# EAGLE library part ADA4932-1YCPZ-R7 (library open_covg)
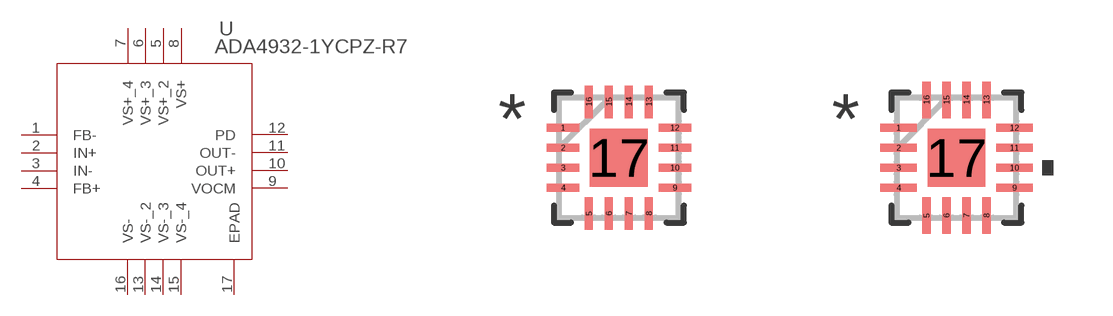
[diagram p3: symbol with the pads of CP_16_2; footprints CP_16_2, CP_16_2-M]

Designator prefix U

## ADA4932-1YCPZ-R7 (MANUFACTURER_PART_NUMBER: ADA49321YCPZR7; VENDOR: Analog Devices Inc)  [CP_16_2]
1  FB-  pas
2  IN+  pas
3  IN-  pas
4  FB+  pas
5  VS+_2  pwr
6  VS+_3  pwr
7  VS+_4  pwr
8  VS+  pwr
9  VOCM  pas
10  OUT+  pas
11  OUT-  pas
12  PD  pas
13  VS-_2  pwr
14  VS-_3  pwr
15  VS-_4  pwr
16  VS-  pwr
17  EPAD  pwr

## ADA4932-1YCPZ-R7CP_16_2-M (MANUFACTURER_PART_NUMBER: ADA49321YCPZR7; VENDOR: Analog Devices Inc)  [CP_16_2-M]
Pads as for CP_16_2

## ADA4932-1YCPZ-R7CP_16_2-L (MANUFACTURER_PART_NUMBER: ADA49321YCPZR7; VENDOR: Analog Devices Inc)  [CP_16_2-L]
Pads as for CP_16_2

## Footprint CP_16_2 (pad centres in mm)
smd 0.813 x 0.203: 1 -1.397,0.75; 2 -1.397,0.25; 3 -1.397,-0.25; 4 -1.397,-0.75; 9 1.397,-0.75; 10 1.397,-0.25; 11 1.397,0.25; 12 1.397,0.75
smd 0.203 x 0.813: 5 -0.75,-1.397; 6 -0.25,-1.397; 7 0.25,-1.397; 8 0.75,-1.397; 13 0.75,1.397; 14 0.25,1.397; 15 -0.25,1.397; 16 -0.75,1.397
smd 1.448 x 1.448: 17 0,0

## Footprint CP_16_2-M (pad centres in mm)
smd 0.914 x 0.203: 1 -1.448,0.75; 2 -1.448,0.25; 3 -1.448,-0.25; 4 -1.448,-0.75; 9 1.448,-0.75; 10 1.448,-0.25; 11 1.448,0.25; 12 1.448,0.75
smd 0.203 x 0.914: 5 -0.75,-1.448; 6 -0.25,-1.448; 7 0.25,-1.448; 8 0.75,-1.448; 13 0.75,1.448; 14 0.25,1.448; 15 -0.25,1.448; 16 -0.75,1.448
smd 1.448 x 1.448: 17 0,0

## Footprint CP_16_2-L (pad centres in mm)
smd 0.711 x 0.203: 1 -1.346,0.75; 2 -1.346,0.25; 3 -1.346,-0.25; 4 -1.346,-0.75; 9 1.346,-0.75; 10 1.346,-0.25; 11 1.346,0.25; 12 1.346,0.75
smd 0.203 x 0.711: 5 -0.75,-1.346; 6 -0.25,-1.346; 7 0.25,-1.346; 8 0.75,-1.346; 13 0.75,1.346; 14 0.25,1.346; 15 -0.25,1.346; 16 -0.75,1.346
smd 1.448 x 1.448: 17 0,0